# Altium integrated library Micron Memory Parallel NOR Flash.IntLib: 720 symbols (part 147 of 216)
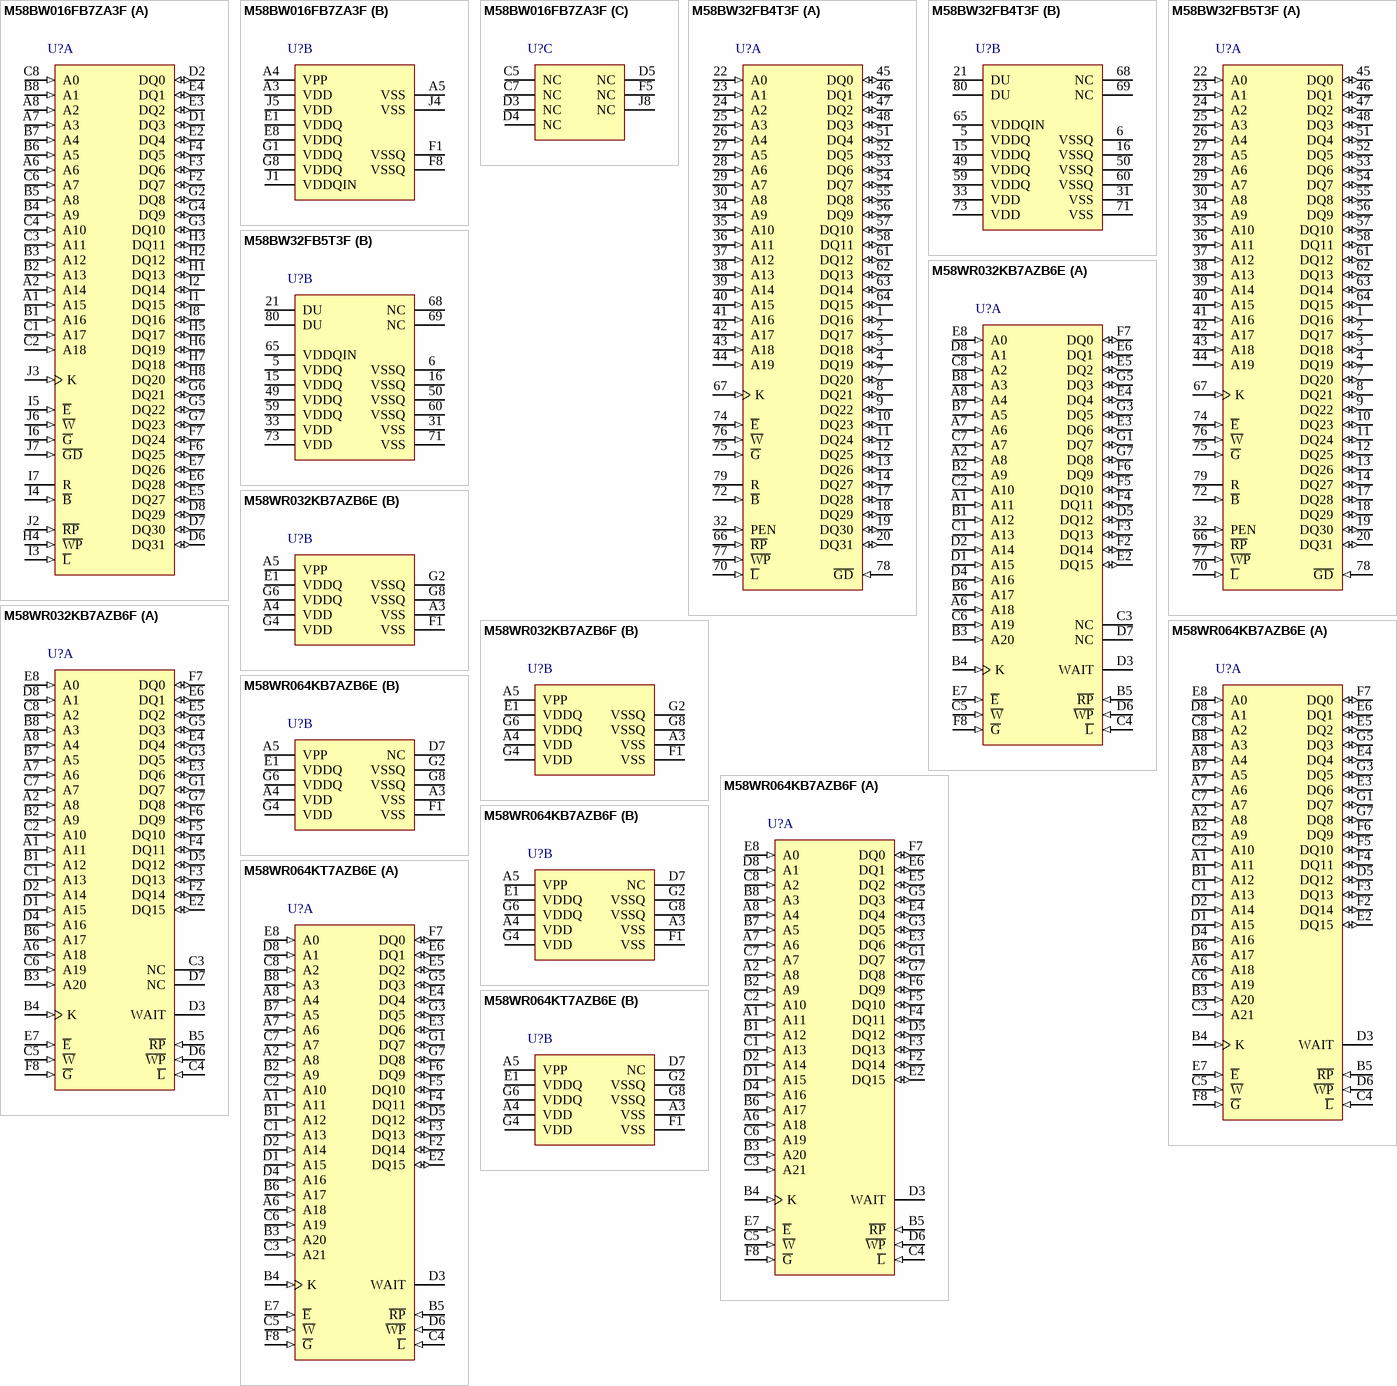
[diagram p183: symbols M58BW016FB7ZA3F to M58WR064KT7AZB6E]

## M58BW32FB5T3F
designator U?
32 Mb (x32) Automotive Parallel NOR Flash Memory, 55 ns, 2.7 to 3.6 V, 80-pin PQFP (T), Tape & Reel; Part Family: M58BW; Manufacturer: Micron; PartNumber: M58BW32FB5T3F; Density: 32Mb; Op Temp: -40C to +125C; Speed: 55ns; Voltage: 2.7V-3.6V; DatasheetVersion: Rev. 6; PackageVersion: Rev 18; PackageReference: MICT-T-80; PackageDescription: 80-Pin PQFP, 20 X 14 mm, Pitch 0.8 mm; RoHS: Yes; Width: x32; Mounting Technology: Surface Mount; ComponentLink1Description: Manufacturer URL; ComponentLink1URL: http://www.micron.com/; ComponentLink2Description: Datasheet; ComponentLink2URL: http://www.micron.com/~/media/Documents/Products/Data%20Sheet/NOR%20Flash/M58BW16_32F.pdf; ComponentLink3Description: Package Specification; ComponentLink3URL: http://www.micron.com/~/media/Documents/Products/Data%20Sheet/NOR%20Flash/Parallel/P30/306666_P30_130nm_Discrete_DS.pdf
footprint MICT-T-80_N (QFP, 80-Leads, Body 20x14mm, Pitch 0.8mm, IPC Medium Density)
part A pins: 1 DQ16 (io) "The Data input/output output the data stored at the selected address during a Bus Read operation, or are used to input the data during a program operation. During Bus Write operations they represent the commands sent to the (See Datasheet)", 2 DQ17 (io) "The Data input/output output the data stored at the selected address during a Bus Read operation, or are used to input the data during a program operation. During Bus Write operations they represent the commands sent to the (See Datasheet)", 3 DQ18 (io) "The Data input/output output the data stored at the selected address during a Bus Read operation, or are used to input the data during a program operation. During Bus Write operations they represent the commands sent to the (See Datasheet)", 4 DQ19 (io) "The Data input/output output the data stored at the selected address during a Bus Read operation, or are used to input the data during a program operation. During Bus Write operations they represent the commands sent to the (See Datasheet)", 7 DQ20 (io) "The Data input/output output the data stored at the selected address during a Bus Read operation, or are used to input the data during a program operation. During Bus Write operations they represent the commands sent to the (See Datasheet)", 8 DQ21 (io) "The Data input/output output the data stored at the selected address during a Bus Read operation, or are used to input the data during a program operation. During Bus Write operations they represent the commands sent to the (See Datasheet)", 9 DQ22 (io) "The Data input/output output the data stored at the selected address during a Bus Read operation, or are used to input the data during a program operation. During Bus Write operations they represent the commands sent to the (See Datasheet)", 10 DQ23 (io) "The Data input/output output the data stored at the selected address during a Bus Read operation, or are used to input the data during a program operation. During Bus Write operations they represent the commands sent to the (See Datasheet)", 11 DQ24 (io) "The Data input/output output the data stored at the selected address during a Bus Read operation, or are used to input the data during a program operation. During Bus Write operations they represent the commands sent to the (See Datasheet)", 12 DQ25 (io) "The Data input/output output the data stored at the selected address during a Bus Read operation, or are used to input the data during a program operation. During Bus Write operations they represent the commands sent to the (See Datasheet)", 13 DQ26 (io) "The Data input/output output the data stored at the selected address during a Bus Read operation, or are used to input the data during a program operation. During Bus Write operations they represent the commands sent to the (See Datasheet)", 14 DQ27 (io) "The Data input/output output the data stored at the selected address during a Bus Read operation, or are used to input the data during a program operation. During Bus Write operations they represent the commands sent to the (See Datasheet)", 17 DQ28 (io) "The Data input/output output the data stored at the selected address during a Bus Read operation, or are used to input the data during a program operation. During Bus Write operations they represent the commands sent to the (See Datasheet)", 18 DQ29 (io) "The Data input/output output the data stored at the selected address during a Bus Read operation, or are used to input the data during a program operation. During Bus Write operations they represent the commands sent to the (See Datasheet)", 19 DQ30 (io) "The Data input/output output the data stored at the selected address during a Bus Read operation, or are used to input the data during a program operation. During Bus Write operations they represent the commands sent to the (See Datasheet)", 20 DQ31 (io) "The Data input/output output the data stored at the selected address during a Bus Read operation, or are used to input the data during a program operation. During Bus Write operations they represent the commands sent to the (See Datasheet)", 22 A0 (in) "Amax is equal to A18 in the M58BW16F, and to A19 in the M58BW32F.The Address inputs are used to select the cells to access in the memory array during Bus operations. During Bus Write operations they control the commands sent (See Datasheet)", 23 A1 (in) "Amax is equal to A18 in the M58BW16F, and to A19 in the M58BW32F.The Address inputs are used to select the cells to access in the memory array during Bus operations. During Bus Write operations they control the commands sent (See Datasheet)", 24 A2 (in) "Amax is equal to A18 in the M58BW16F, and to A19 in the M58BW32F.The Address inputs are used to select the cells to access in the memory array during Bus operations. During Bus Write operations they control the commands sent (See Datasheet)", 25 A3 (in) "Amax is equal to A18 in the M58BW16F, and to A19 in the M58BW32F.The Address inputs are used to select the cells to access in the memory array during Bus operations. During Bus Write operations they control the commands sent (See Datasheet)", 26 A4 (in) "Amax is equal to A18 in the M58BW16F, and to A19 in the M58BW32F.The Address Input are used to select the cells to access in the memory array during Bus operations. During Bus Write operations they control the commands sent (See Datasheet)", 27 A5 (in) "Amax is equal to A18 in the M58BW16F, and to A19 in the M58BW32F.The Address Input are used to select the cells to access in the memory array during Bus operations. During Bus Write operations they control the commands sent (See Datasheet)", 28 A6 (in) "Amax is equal to A18 in the M58BW16F, and to A19 in the M58BW32F.The Address Input are used to select the cells to access in the memory array during Bus operations. During Bus Write operations they control the commands sent (See Datasheet)", 29 A7 (in) "Amax is equal to A18 in the M58BW16F, and to A19 in the M58BW32F.The Address Input are used to select the cells to access in the memory array during Bus operations. During Bus Write operations they control the commands sent (See Datasheet)", 30 A8 (in) "Amax is equal to A18 in the M58BW16F, and to A19 in the M58BW32F.The Address Input are used to select the cells to access in the memory array during Bus operations. During Bus Write operations they control the commands sent (See Datasheet)", 32 PEN (in) "The Program/Erase Enable input, PEN, protects all blocks by preventing Program and  Erase operations from modifying the data. Prior to issuing a Program or Erase command, the Program/Erase Enable must be set to  High (VIH). (See Datasheet)", 34 A9 (in) "Amax is equal to A18 in the M58BW16F, and to A19 in the M58BW32F.The Address Input are used to select the cells to access in the memory array during Bus operations. During Bus Write operations they control the commands sent (See Datasheet)", 35 A10 (in) "Amax is equal to A18 in the M58BW16F, and to A19 in the M58BW32F.The Address Input are used to select the cells to access in the memory array during Bus operations. During Bus Write operations they control the commands sent (See Datasheet)", 36 A11 (in) "Amax is equal to A18 in the M58BW16F, and to A19 in the M58BW32F.The Address Input are used to select the cells to access in the memory array during Bus operations. During Bus Write operations they control the commands sent (See Datasheet)", 37 A12 (in) "Amax is equal to A18 in the M58BW16F, and to A19 in the M58BW32F.The Address Input are used to select the cells to access in the memory array during Bus operations. During Bus Write operations they control the commands sent (See Datasheet)", 38 A13 (in) "Amax is equal to A18 in the M58BW16F, and to A19 in the M58BW32F.The Address Input are used to select the cells to access in the memory array during Bus operations. During Bus Write operations they control the commands sent (See Datasheet)", 39 A14 (in) "Amax is equal to A18 in the M58BW16F, and to A19 in the M58BW32F.The Address Input are used to select the cells to access in the memory array during Bus operations. During Bus Write operations they control the commands sent (See Datasheet)", 40 A15 (in) "Amax is equal to A18 in the M58BW16F, and to A19 in the M58BW32F.The Address Input are used to select the cells to access in the memory array during Bus operations. During Bus Write operations they control the commands sent (See Datasheet)", 41 A16 (in) "Amax is equal to A18 in the M58BW16F, and to A19 in the M58BW32F.The Address Input are used to select the cells to access in the memory array during Bus operations. During Bus Write operations they control the commands sent (See Datasheet)", 42 A17 (in) "Amax is equal to A18 in the M58BW16F, and to A19 in the M58BW32F.The Address Input are used to select the cells to access in the memory array during Bus operations. During Bus Write operations they control the commands sent (See Datasheet)", 43 A18 (in) "Amax is equal to A18 in the M58BW16F, and to A19 in the M58BW32F.The Address Input are used to select the cells to access in the memory array during Bus operations. During Bus Write operations they control the commands sent (See Datasheet)", 44 A19 (in) "Amax is equal to A18 in the M58BW16F, and to A19 in the M58BW32F.The Address Input are used to select the cells to access in the memory array during Bus operations. During Bus Write operations they control the commands sent (See Datasheet)", 45 DQ0 (io) "The Data Input/Output output the data stored at the selected address during a Bus Read operation, or are used to input the data during a program operation. During Bus Write operations they represent the commands sent to the (See Datasheet)", 46 DQ1 (io) "The Data input/Output output the data stored at the selected address during a Bus Read operation, or are used to input the data during a program operation. During Bus Write operations they represent the commands sent to the (See Datasheet)", 47 DQ2 (io) "The Data Input/Output output the data stored at the selected address during a Bus Read operation, or are used to input the data during a program operation. During Bus Write operations they represent the commands sent to the (See Datasheet)", 48 DQ3 (io) "The Data input/Output output the data stored at the selected address during a Bus Read operation, or are used to input the data during a program operation. During Bus Write operations they represent the commands sent to the (See Datasheet)", 51 DQ4 (io) "The Data Input/Output output the data stored at the selected address during a Bus Read operation, or are used to input the data during a program operation. During Bus Write operations they represent the commands sent to the (See Datasheet)", 52 DQ5 (io) "The Data Input/Output output the data stored at the selected address during a Bus Read operation, or are used to input the data during a program operation. During Bus Write operations they represent the commands sent to the (See Datasheet)", 53 DQ6 (io) "The Data Input/Output output the data stored at the selected address during a Bus Read operation, or are used to input the data during a program operation. During Bus Write operations they represent the commands sent to the (See Datasheet)", 54 DQ7 (io) "The Data Input/Output output the data stored at the selected address during a Bus Read operation, or are used to input the data during a program operation. During Bus Write operations they represent the commands sent to the (See Datasheet)", 55 DQ8 (io) "The Data input/output output the data stored at the selected address during a Bus Read operation, or are used to input the data during a program operation. During Bus Write operations they represent the commands sent to the (See Datasheet)", 56 DQ9 (io) "The Data input/output output the data stored at the selected address during a Bus Read operation, or are used to input the data during a program operation. During Bus Write operations they represent the commands sent to the (See Datasheet)", 57 DQ10 (io) "The Data Input/Output output the data stored at the selected address during a Bus Read operation, or are used to input the data during a program operation. During Bus Write operations they represent the commands sent to the (See Datasheet)", 58 DQ11 (io) "The Data Input/Output output the data stored at the selected address during a Bus Read operation, or are used to input the data during a program operation. During Bus Write operations they represent the commands sent to the (See Datasheet)", 61 DQ12 (io) "The Data Input/Output output the data stored at the selected address during a Bus Read operation, or are used to input the data during a program operation. During Bus Write operations they represent the commands sent to the (See Datasheet)", 62 DQ13 (io) "The Data input/output output the data stored at the selected address during a Bus Read operation, or are used to input the data during a program operation. During Bus Write operations they represent the commands sent to the (See Datasheet)", 63 DQ14 (io) "The Data input/output output the data stored at the selected address during a Bus Read operation, or are used to input the data during a program operation. During Bus Write operations they represent the commands sent to the (See Datasheet)", 64 DQ15 (io) "The Data input/output output the data stored at the selected address during a Bus Read operation, or are used to input the data during a program operation. During Bus Write operations they represent the commands sent to the (See Datasheet)", 66 ~{RP} (in) "The Reset/Power-down, RP, is used to apply a hardware reset to the memory. A hardware  reset is achieved by holding Reset/Power-down Low, VIL , for at least tPLPH. Writing is  inhibited to protect data, the command interface (See Datasheet)", 67 K (in) "The Burst Clock, K, is used to synchronize the memory with the external bus during  Synchronous Burst Read operations. Bus signals are latched on the active edge of the  Clock. In Synchronous Burst Read mode the address is (See Datasheet)", 70 ~{L} (in) "The Bus Interface can be configured to latch the Address inputs on the rising edge of Latch  Enable, L, for Asynchronous Latch Enable Controlled Read or Write or Synchronous Burst  Read operations. In Synchronous Burst Read (See Datasheet)", 72 ~{B} (in) "The Burst Address Advance, B, controls the advancing of the address by the internal  address counter during Synchronous Burst Read operations. Burst Address Advance, B, is only sampled on the active clock edge of the Clock (See Datasheet)", 74 ~{E} (in) "The Chip Enable, E, input activates the memory control logic, input buffers, decoders and sense amplifiers. Chip Enable, E, at VIH deselects the memory and reduces the power consumption to the standby level.", 75 ~{G} (in) "The Output Enable, G, gates the outputs through the data output buffers during a Read operation, when Output Disable GD is at VIH. When Output Enable G is at VIH, the outputs are high impedance independently of Output (See Datasheet)", 76 ~{W} (in) "The Write Enable, W, input controls writing to the command interface, input address and data latches. Both addresses and data can be latched on the rising edge of Write Enable (also see Latch Enable, L).", 77 ~{WP} (in) "The Write Protect, WP, provides protection against Program or Erase operations. When  Write Protect, W\P\, is at VIL , the protection status that has been configured in the Block  Protection Configuration Register is (See Datasheet)", 78 ~{GD} (in) "The Output Disable, GD, deactivates the data output buffers. When Output Disable, GD, is at VIH, the outputs are driven by the Output Enable. When Output Disable, GD, is at VIL, the outputs are high impedance independently (See Datasheet)", 79 R (hiz) "The Valid Data Ready output, R, can be used during Synchronous Burst Read operations to  identify if the memory is ready to output data or not. The Valid Data Ready output can be  configured to be active on the clock edge of (See Datasheet)"
part B pins: 5 VDDQ (power) "The output supply voltage, VDDQ, is the output buffer power supply for all operations (Read,  Program and Erase) used for DQ0-DQ31 when used as outputs.", 6 VSSQ (power) "The ground VSS is the reference for the internal supply voltage VDD. The ground VSSQ is the  reference for the output and input supplies VDDQ,  and VDDQIN. It is essential to connect VSS and VSSQ together.", 15 VDDQ (power) "The output supply voltage, VDDQ, is the output buffer power supply for all operations (Read,  Program and Erase) used for DQ0-DQ31 when used as outputs.", 16 VSSQ (power) "The ground VSS is the reference for the internal supply voltage VDD. The ground VSSQ is the  reference for the output and input supplies VDDQ,  and VDDQIN. It is essential to connect VSS and VSSQ together.", 21 DU "This pin should not be used as it is internally connected. Its voltage level can be between  VSS  and VDDQ or leave it unconnected.", 31 VSS (power) "The ground VSS is the reference for the internal supply voltage VDD. The ground VSSQ is the  reference for the output and input supplies VDDQ,  and VDDQIN. It is essential to connect VSS and VSSQ together.", 33 VDD (power) "The supply voltage, VDD, is the core power supply. All internal circuits draw their current  from the VDD pin, including the Program/Erase controller.", 49 VDDQ (power) "The output supply voltage, VDDQ, is the output buffer power supply for all operations (Read,  Program and Erase) used for DQ0-DQ31 when used as outputs.", 50 VSSQ (power) "The ground VSS is the reference for the internal supply voltage VDD. The ground VSSQ is the  reference for the output and input supplies VDDQ,  and VDDQIN. It is essential to connect VSS and VSSQ together.", 59 VDDQ (power) "The output supply voltage, VDDQ, is the output buffer power supply for all operations (Read,  Program and Erase) used for DQ0-DQ31 when used as outputs.", 60 VSSQ (power) "The ground VSS is the reference for the internal supply voltage VDD. The ground VSSQ is the  reference for the output and input supplies VDDQ,  and VDDQIN. It is essential to connect VSS and VSSQ together.", 65 VDDQIN (power) "The input supply voltage, VDDQIN, is the power supply for all input signal. Input signals are: K,  B\, L\, W\, G\D\, G\, E\, A0-Amax and DQ0-DQ31, when used as inputs.", 68 NC "This pin is not physically connected to the device.", 69 NC "This pin is not physically connected to the device.", 71 VSS (power) "The ground VSS is the reference for the internal supply voltage VDD. The ground VSSQ is the  reference for the output and input supplies VDDQ,  and VDDQIN. It is essential to connect VSS and VSSQ together.", 73 VDD (power) "The supply voltage, VDD, is the core power supply. All internal circuits draw their current  from the VDD pin, including the Program/Erase controller.", 80 DU "This pin should not be used as it is internally connected. Its voltage level can be between  VSS  and VDDQ or leave it unconnected."

## M58WR032KB7AZB6E
designator U?
32 Mb (x16) Automotive Parallel NOR Flash Memory, 70 ns, 1.7 to 2.0 V, 56-ball WFBGA (ZB), Tray; Part Family: M58WR; Manufacturer: Micron; PartNumber: M58WR032KB7AZB6E; Density: 32Mb; Op Temp: -40C to +85C; Speed: 70ns; Voltage: 1.7V-2.0V; DatasheetVersion: Rev. 6; PackageVersion: Rev 18; PackageReference: MICT-ZA-80; PackageDescription: 80-Ball LBGA, 12 X 10 mm, Pitch 1 mm; RoHS: Yes; Width: x16; Mounting Technology: Surface Mount; ComponentLink1Description: Manufacturer URL; ComponentLink1URL: http://www.micron.com/; ComponentLink2Description: Datasheet; ComponentLink2URL: http://www.micron.com/~/media/Documents/Products/Data%20Sheet/NOR%20Flash/Parallel/P30/306666_P30_130nm_Discrete_DS.pdf; ComponentLink3Description: Package Specification; ComponentLink3URL: http://www.micron.com/~/media/Documents/Products/Data%20Sheet/NOR%20Flash/Parallel/P30/306666_P30_130nm_Discrete_DS.pdf
footprint MICT-ZA-80 (BGA, 80-Balls, Body 12x10mm, Pitch 1mm)
part A pins: A1 A11 (in) "Address input:Amax is the highest order address input. It is equal to A19 in the M58WR016KT/B, to A20 in the M58WR032KT/B and, to A21 in the M58WR064KT/B. The address inputs select the cells in the memory array to access (See Datasheet)", A2 A8 (in) "Address input:Amax is the highest order address input. It is equal to A19 in the M58WR016KT/B, to A20 in the M58WR032KT/B and, to A21 in the M58WR064KT/B. The address inputs select the cells in the memory array to access (See Datasheet)", A6 A18 (in) "Address input:Amax is the highest order address input. It is equal to A19 in the M58WR016KT/B, to A20 in the M58WR032KT/B and, to A21 in the M58WR064KT/B. The Address Input select the cells in the memory array to access (See Datasheet)", A7 A6 (in) "Address input:Amax is the highest order address input. It is equal to A19 in the M58WR016KT/B, to A20 in the M58WR032KT/B and, to A21 in the M58WR064KT/B. The address inputs select the cells in the memory array to access (See Datasheet)", A8 A4 (in) "Address input:Amax is the highest order address input. It is equal to A19 in the M58WR016KT/B, to A20 in the M58WR032KT/B and, to A21 in the M58WR064KT/B. The address inputs select the cells in the memory array to access (See Datasheet)", B1 A12 (in) "Address input:Amax is the highest order address input. It is equal to A19 in the M58WR016KT/B, to A20 in the M58WR032KT/B and, to A21 in the M58WR064KT/B. The address inputs select the cells in the memory array to access (See Datasheet)", B2 A9 (in) "Address input:Amax is the highest order address input. It is equal to A19 in the M58WR016KT/B, to A20 in the M58WR032KT/B and, to A21 in the M58WR064KT/B. The address inputs select the cells in the memory array to access (See Datasheet)", B3 A20 (in) "Address input:Amax is the highest order address input. It is equal to A19 in the M58WR016KT/B, to A20 in the M58WR032KT/B and, to A21 in the M58WR064KT/B. The Address Input select the cells in the memory array to access (See Datasheet)", B4 K (in) "Clock:The clock input synchronizes the memory to the microcontroller during synchronous read operations; the address is latched on a Clock edge (rising or falling, according to the configuration settings) when Latch Enable (See Datasheet)", B5 ~{RP} (in) "Reset:The Reset input provides a hardware reset of the memory. When Reset is at VIL, the memory is in reset mode: the outputs are high impedance and the current consumption is reduced to the reset supply current IDD2. Refer (See Datasheet)", B6 A17 (in) "Address input:Amax is the highest order address input. It is equal to A19 in the M58WR016KT/B, to A20 in the M58WR032KT/B and, to A21 in the M58WR064KT/B. The Address Input select the cells in the memory array to access (See Datasheet)", B7 A5 (in) "Address input:Amax is the highest order address input. It is equal to A19 in the M58WR016KT/B, to A20 in the M58WR032KT/B and, to A21 in the M58WR064KT/B. The address inputs select the cells in the memory array to access (See Datasheet)", B8 A3 (in) "Address input:Amax is the highest order address input. It is equal to A19 in the M58WR016KT/B, to A20 in the M58WR032KT/B and, to A21 in the M58WR064KT/B. The address inputs select the cells in the memory array to access (See Datasheet)", C1 A13 (in) "Address input:Amax is the highest order address input. It is equal to A19 in the M58WR016KT/B, to A20 in the M58WR032KT/B and, to A21 in the M58WR064KT/B. The address inputs select the cells in the memory array to access (See Datasheet)", C2 A10 (in) "Address input:Amax is the highest order address input. It is equal to A19 in the M58WR016KT/B, to A20 in the M58WR032KT/B and, to A21 in the M58WR064KT/B. The address inputs select the cells in the memory array to access (See Datasheet)", C3 NC "Not connected internally", C4 ~{L} (in) "Latch Enable:Latch Enable latches the address bits on its rising edge. The address latch is transparent when Latch Enable is at VIL and it is inhibited when Latch Enable is at VIH. Latch Enable can be kept Low (also at board (See Datasheet)", C5 ~{W} (in) "Write Enable:The Write Enable input controls the bus write operation of the memory’s command interface. The data and address inputs are latched on the rising edge of Chip Enable or Write Enable, whichever occurs first.", C6 A19 (in) "Address input:Amax is the highest order address input. It is equal to A19 in the M58WR016KT/B, to A20 in the M58WR032KT/B and, to A21 in the M58WR064KT/B. The Address Input select the cells in the memory array to access (See Datasheet)", C7 A7 (in) "Address input:Amax is the highest order address input. It is equal to A19 in the M58WR016KT/B, to A20 in the M58WR032KT/B and, to A21 in the M58WR064KT/B. The address inputs select the cells in the memory array to access (See Datasheet)", C8 A2 (in) "Address input:Amax is the highest order address input. It is equal to A19 in the M58WR016KT/B, to A20 in the M58WR032KT/B and, to A21 in the M58WR064KT/B. The address inputs select the cells in the memory array to access (See Datasheet)", D1 A15 (in) "Address input:Amax is the highest order address input. It is equal to A19 in the M58WR016KT/B, to A20 in the M58WR032KT/B and, to A21 in the M58WR064KT/B. The Address Input select the cells in the memory array to access (See Datasheet)", D2 A14 (in) "Address input:Amax is the highest order address input. It is equal to A19 in the M58WR016KT/B, to A20 in the M58WR032KT/B and, to A21 in the M58WR064KT/B. The address inputs select the cells in the memory array to access (See Datasheet)", D3 WAIT (hiz) "Wait:Wait is an output signal used during synchronous read to indicate whether the data on the output bus are valid. This output is high impedance when Chip Enable is at VIH or Reset is at VIL. It can be configured to be (See Datasheet)", D4 A16 (in) "Address input:Amax is the highest order address input. It is equal to A19 in the M58WR016KT/B, to A20 in the M58WR032KT/B and, to A21 in the M58WR064KT/B. The Address Input select the cells in the memory array to access (See Datasheet)", D5 DQ12 (io) "Data input/output: The data I/O output the data stored at the selected address during a bus read operation or input a command or the data to be programmed during a bus write operation.", D6 ~{WP} (in) "Write Protect:Write Protect is an input that provides additional hardware protection for each block. When Write Protect is at VIL, the lock-down is enabled and the protection status of the lockeddown blocks cannot be changed.(See Datasheet)", D7 NC "Not connected internally", D8 A1 (in) "Address input:Amax is the highest order address input. It is equal to A19 in the M58WR016KT/B, to A20 in the M58WR032KT/B and, to A21 in the M58WR064KT/B. The address inputs select the cells in the memory array to access (See Datasheet)", E2 DQ15 (io) "Data input/output: The data I/O output the data stored at the selected address during a bus read operation or input a command or the data to be programmed during a bus write operation.", E3 DQ6 (io) "Data input/output: The data I/O output the data stored at the selected address during a bus read operation or input a command or the data to be programmed during a bus write operation.", E4 DQ4 (io) "Data input/output: The data I/O output the data stored at the selected address during a bus read operation or input a command or the data to be programmed during a bus write operation.", E5 DQ2 (io) "Data input/output: The data I/O output the data stored at the selected address during a bus read operation or input a command or the data to be programmed during a bus write operation.", E6 DQ1 (io) "Data input/output: The data I/O output the data stored at the selected address during a bus read operation or input a command or the data to be programmed during a bus write operation.", E7 ~{E} (in) "Chip Enable: The Chip Enable input activates the memory control logic, input buffers, decoders and sense amplifiers. When Chip Enable is at VILand Reset is at VIH the device is in active mode. When Chip Enable is at VIH the (See Datasheet)", E8 A0 (in) "Address input:Amax is the highest order address input. It is equal to A19 in the M58WR016KT/B, to A20 in the M58WR032KT/B and, to A21 in the M58WR064KT/B. The address input select the cells in the memory array to access (See Datasheet)", F2 DQ14 (io) "Data input/output: The data I/O output the data stored at the selected address during a bus read operation or input a command or the data to be programmed during a bus write operation.", F3 DQ13 (io) "Data input/output: The data I/O output the data stored at the selected address during a bus read operation or input a command or the data to be programmed during a bus write operation.", F4 DQ11 (io) "Data input/output: The data I/O output the data stored at the selected address during a bus read operation or input a command or the data to be programmed during a bus write operation.", F5 DQ10 (io) "Data input/output: The data I/O output the data stored at the selected address during a bus read operation or input a command or the data to be programmed during a bus write operation.", F6 DQ9 (io) "Data input/output: The data I/O output the data stored at the selected address during a bus read operation or input a command or the data to be programmed during a bus write operation.", F7 DQ0 (io) "Data input/output: The data I/O output the data stored at the selected address during a bus read operation or input a command or the data to be programmed during a bus write operation.", F8 ~{G} (in) "The Output Enable input controls data outputs during the bus read operation of the memory.", G1 DQ7 (io) "Data input/output: The data I/O output the data stored at the selected address during a bus read operation or input a command or the data to be programmed during a bus write operation.", G3 DQ5 (io) "Data input/output: The data I/O output the data stored at the selected address during a bus read operation or input a command or the data to be programmed during a bus write operation.", G5 DQ3 (io) "Data input/output: The data I/O output the data stored at the selected address during a bus read operation or input a command or the data to be programmed during a bus write operation.", G7 DQ8 (io) "Data input/output: The data I/O output the data stored at the selected address during a bus read operation or input a command or the data to be programmed during a bus write operation."
part B pins: A3 VSS (power) "VSS ground:VSS ground is the reference for the core supply, and must be connected to the system ground.", A4 VDD (power) "VDD supply voltage:VDD provides the power supply to the internal core of the memory device. It is the main power supply for all operations (read, program and erase).", A5 VPP (power) "VPP program supply voltage:VPP is both a control input and a power supply pin. The two functions are selected by the voltage range applied to the pin.", E1 VDDQ (power) "VDDQ supply voltage:VDDQ provides the power supply to the I/O pins and enables all outputs to be powered independently of VDD. VDDQ can be tied to VDD or can use a separate supply.", F1 VSS (power) "VSS ground:VSS ground is the reference for the core supply, and must be connected to the system ground.", G2 VSSQ (power) "VSSQ ground:VSSQ ground is the reference for the input/output circuitry driven by VDDQ. VSSQ must be connected to VSS", G4 VDD (power) "VDD supply voltage:VDD provides the power supply to the internal core of the memory device. It is the main power supply for all operations (read, program and erase).", G6 VDDQ (power) "VDDQ supply voltage:VDDQ provides the power supply to the I/O pins and enables all outputs to be powered independently of VDD. VDDQ can be tied to VDD or can use a separate supply.", G8 VSSQ (power) "VSSQ ground:VSSQ ground is the reference for the input/output circuitry driven by VDDQ. VSSQ must be connected to VSS"

## M58WR032KB7AZB6F
designator U?
32 Mb (x16) Automotive Parallel NOR Flash Memory, 70 ns, 1.7 to 2.0 V, 56-ball VFBGA (ZB), Tape & Reel; Part Family: M58WR; Manufacturer: Micron; PartNumber: M58WR032KB7AZB6F; Density: 32Mb; Op Temp: -40C to +85C; Speed: 70ns; Voltage: 1.7V-2.0V; DatasheetVersion: Rev. 6; PackageVersion: Rev 18; PackageReference: MICT-ZA-80; PackageDescription: 80-Ball LBGA, 12 X 10 mm, Pitch 1 mm; RoHS: Yes; Width: x16; Mounting Technology: Surface Mount; ComponentLink1Description: Manufacturer URL; ComponentLink1URL: http://www.micron.com/; ComponentLink2Description: Datasheet; ComponentLink2URL: http://www.micron.com/~/media/Documents/Products/Data%20Sheet/NOR%20Flash/Parallel/P30/306666_P30_130nm_Discrete_DS.pdf; ComponentLink3Description: Package Specification; ComponentLink3URL: http://www.micron.com/~/media/Documents/Products/Data%20Sheet/NOR%20Flash/Parallel/P30/306666_P30_130nm_Discrete_DS.pdf
footprint MICT-ZA-80 (BGA, 80-Balls, Body 12x10mm, Pitch 1mm)
part A pins: A1 A11 (in) "Address input:Amax is the highest order address input. It is equal to A19 in the M58WR016KT/B, to A20 in the M58WR032KT/B and, to A21 in the M58WR064KT/B. The address inputs select the cells in the memory array to access (See Datasheet)", A2 A8 (in) "Address input:Amax is the highest order address input. It is equal to A19 in the M58WR016KT/B, to A20 in the M58WR032KT/B and, to A21 in the M58WR064KT/B. The address inputs select the cells in the memory array to access (See Datasheet)", A6 A18 (in) "Address input:Amax is the highest order address input. It is equal to A19 in the M58WR016KT/B, to A20 in the M58WR032KT/B and, to A21 in the M58WR064KT/B. The Address Input select the cells in the memory array to access (See Datasheet)", A7 A6 (in) "Address input:Amax is the highest order address input. It is equal to A19 in the M58WR016KT/B, to A20 in the M58WR032KT/B and, to A21 in the M58WR064KT/B. The address inputs select the cells in the memory array to access (See Datasheet)", A8 A4 (in) "Address input:Amax is the highest order address input. It is equal to A19 in the M58WR016KT/B, to A20 in the M58WR032KT/B and, to A21 in the M58WR064KT/B. The address inputs select the cells in the memory array to access (See Datasheet)", B1 A12 (in) "Address input:Amax is the highest order address input. It is equal to A19 in the M58WR016KT/B, to A20 in the M58WR032KT/B and, to A21 in the M58WR064KT/B. The address inputs select the cells in the memory array to access (See Datasheet)", B2 A9 (in) "Address input:Amax is the highest order address input. It is equal to A19 in the M58WR016KT/B, to A20 in the M58WR032KT/B and, to A21 in the M58WR064KT/B. The address inputs select the cells in the memory array to access (See Datasheet)", B3 A20 (in) "Address input:Amax is the highest order address input. It is equal to A19 in the M58WR016KT/B, to A20 in the M58WR032KT/B and, to A21 in the M58WR064KT/B. The Address Input select the cells in the memory array to access (See Datasheet)", B4 K (in) "Clock:The clock input synchronizes the memory to the microcontroller during synchronous read operations; the address is latched on a Clock edge (rising or falling, according to the configuration settings) when Latch Enable (See Datasheet)", B5 ~{RP} (in) "Reset:The Reset input provides a hardware reset of the memory. When Reset is at VIL, the memory is in reset mode: the outputs are high impedance and the current consumption is reduced to the reset supply current IDD2. Refer (See Datasheet)", B6 A17 (in) "Address input:Amax is the highest order address input. It is equal to A19 in the M58WR016KT/B, to A20 in the M58WR032KT/B and, to A21 in the M58WR064KT/B. The Address Input select the cells in the memory array to access (See Datasheet)", B7 A5 (in) "Address input:Amax is the highest order address input. It is equal to A19 in the M58WR016KT/B, to A20 in the M58WR032KT/B and, to A21 in the M58WR064KT/B. The address inputs select the cells in the memory array to access (See Datasheet)", B8 A3 (in) "Address input:Amax is the highest order address input. It is equal to A19 in the M58WR016KT/B, to A20 in the M58WR032KT/B and, to A21 in the M58WR064KT/B. The address inputs select the cells in the memory array to access (See Datasheet)", C1 A13 (in) "Address input:Amax is the highest order address input. It is equal to A19 in the M58WR016KT/B, to A20 in the M58WR032KT/B and, to A21 in the M58WR064KT/B. The address inputs select the cells in the memory array to access (See Datasheet)", C2 A10 (in) "Address input:Amax is the highest order address input. It is equal to A19 in the M58WR016KT/B, to A20 in the M58WR032KT/B and, to A21 in the M58WR064KT/B. The address inputs select the cells in the memory array to access (See Datasheet)", C3 NC "Not connected internally", C4 ~{L} (in) "Latch Enable:Latch Enable latches the address bits on its rising edge. The address latch is transparent when Latch Enable is at VIL and it is inhibited when Latch Enable is at VIH. Latch Enable can be kept Low (also at board (See Datasheet)", C5 ~{W} (in) "Write Enable:The Write Enable input controls the bus write operation of the memory’s command interface. The data and address inputs are latched on the rising edge of Chip Enable or Write Enable, whichever occurs first.", C6 A19 (in) "Address input:Amax is the highest order address input. It is equal to A19 in the M58WR016KT/B, to A20 in the M58WR032KT/B and, to A21 in the M58WR064KT/B. The Address Input select the cells in the memory array to access (See Datasheet)", C7 A7 (in) "Address input:Amax is the highest order address input. It is equal to A19 in the M58WR016KT/B, to A20 in the M58WR032KT/B and, to A21 in the M58WR064KT/B. The address inputs select the cells in the memory array to access (See Datasheet)", C8 A2 (in) "Address input:Amax is the highest order address input. It is equal to A19 in the M58WR016KT/B, to A20 in the M58WR032KT/B and, to A21 in the M58WR064KT/B. The address inputs select the cells in the memory array to access (See Datasheet)", D1 A15 (in) "Address input:Amax is the highest order address input. It is equal to A19 in the M58WR016KT/B, to A20 in the M58WR032KT/B and, to A21 in the M58WR064KT/B. The Address Input select the cells in the memory array to access (See Datasheet)", D2 A14 (in) "Address input:Amax is the highest order address input. It is equal to A19 in the M58WR016KT/B, to A20 in the M58WR032KT/B and, to A21 in the M58WR064KT/B. The address inputs select the cells in the memory array to access (See Datasheet)", D3 WAIT (hiz) "Wait:Wait is an output signal used during synchronous read to indicate whether the data on the output bus are valid. This output is high impedance when Chip Enable is at VIH or Reset is at VIL. It can be configured to be (See Datasheet)", D4 A16 (in) "Address input:Amax is the highest order address input. It is equal to A19 in the M58WR016KT/B, to A20 in the M58WR032KT/B and, to A21 in the M58WR064KT/B. The Address Input select the cells in the memory array to access (See Datasheet)", D5 DQ12 (io) "Data input/output: The data I/O output the data stored at the selected address during a bus read operation or input a command or the data to be programmed during a bus write operation.", D6 ~{WP} (in) "Write Protect:Write Protect is an input that provides additional hardware protection for each block. When Write Protect is at VIL, the lock-down is enabled and the protection status of the lockeddown blocks cannot be changed.(See Datasheet)", D7 NC "Not connected internally", D8 A1 (in) "Address input:Amax is the highest order address input. It is equal to A19 in the M58WR016KT/B, to A20 in the M58WR032KT/B and, to A21 in the M58WR064KT/B. The address inputs select the cells in the memory array to access (See Datasheet)", E2 DQ15 (io) "Data input/output: The data I/O output the data stored at the selected address during a bus read operation or input a command or the data to be programmed during a bus write operation.", E3 DQ6 (io) "Data input/output: The data I/O output the data stored at the selected address during a bus read operation or input a command or the data to be programmed during a bus write operation.", E4 DQ4 (io) "Data input/output: The data I/O output the data stored at the selected address during a bus read operation or input a command or the data to be programmed during a bus write operation.", E5 DQ2 (io) "Data input/output: The data I/O output the data stored at the selected address during a bus read operation or input a command or the data to be programmed during a bus write operation.", E6 DQ1 (io) "Data input/output: The data I/O output the data stored at the selected address during a bus read operation or input a command or the data to be programmed during a bus write operation.", E7 ~{E} (in) "Chip Enable: The Chip Enable input activates the memory control logic, input buffers, decoders and sense amplifiers. When Chip Enable is at VILand Reset is at VIH the device is in active mode. When Chip Enable is at VIH the (See Datasheet)", E8 A0 (in) "Address input:Amax is the highest order address input. It is equal to A19 in the M58WR016KT/B, to A20 in the M58WR032KT/B and, to A21 in the M58WR064KT/B. The address input select the cells in the memory array to access (See Datasheet)", F2 DQ14 (io) "Data input/output: The data I/O output the data stored at the selected address during a bus read operation or input a command or the data to be programmed during a bus write operation.", F3 DQ13 (io) "Data input/output: The data I/O output the data stored at the selected address during a bus read operation or input a command or the data to be programmed during a bus write operation.", F4 DQ11 (io) "Data input/output: The data I/O output the data stored at the selected address during a bus read operation or input a command or the data to be programmed during a bus write operation.", F5 DQ10 (io) "Data input/output: The data I/O output the data stored at the selected address during a bus read operation or input a command or the data to be programmed during a bus write operation.", F6 DQ9 (io) "Data input/output: The data I/O output the data stored at the selected address during a bus read operation or input a command or the data to be programmed during a bus write operation.", F7 DQ0 (io) "Data input/output: The data I/O output the data stored at the selected address during a bus read operation or input a command or the data to be programmed during a bus write operation.", F8 ~{G} (in) "The Output Enable input controls data outputs during the bus read operation of the memory.", G1 DQ7 (io) "Data input/output: The data I/O output the data stored at the selected address during a bus read operation or input a command or the data to be programmed during a bus write operation.", G3 DQ5 (io) "Data input/output: The data I/O output the data stored at the selected address during a bus read operation or input a command or the data to be programmed during a bus write operation.", G5 DQ3 (io) "Data input/output: The data I/O output the data stored at the selected address during a bus read operation or input a command or the data to be programmed during a bus write operation.", G7 DQ8 (io) "Data input/output: The data I/O output the data stored at the selected address during a bus read operation or input a command or the data to be programmed during a bus write operation."
part B pins: A3 VSS (power) "VSS ground:VSS ground is the reference for the core supply, and must be connected to the system ground.", A4 VDD (power) "VDD supply voltage:VDD provides the power supply to the internal core of the memory device. It is the main power supply for all operations (read, program and erase).", A5 VPP (power) "VPP program supply voltage:VPP is both a control input and a power supply pin. The two functions are selected by the voltage range applied to the pin.", E1 VDDQ (power) "VDDQ supply voltage:VDDQ provides the power supply to the I/O pins and enables all outputs to be powered independently of VDD. VDDQ can be tied to VDD or can use a separate supply.", F1 VSS (power) "VSS ground:VSS ground is the reference for the core supply, and must be connected to the system ground.", G2 VSSQ (power) "VSSQ ground:VSSQ ground is the reference for the input/output circuitry driven by VDDQ. VSSQ must be connected to VSS", G4 VDD (power) "VDD supply voltage:VDD provides the power supply to the internal core of the memory device. It is the main power supply for all operations (read, program and erase).", G6 VDDQ (power) "VDDQ supply voltage:VDDQ provides the power supply to the I/O pins and enables all outputs to be powered independently of VDD. VDDQ can be tied to VDD or can use a separate supply.", G8 VSSQ (power) "VSSQ ground:VSSQ ground is the reference for the input/output circuitry driven by VDDQ. VSSQ must be connected to VSS"